# Altium footprint library Conn_Molex_22-23-2041_eec_0.PcbLib: 1 footprints
Each footprint in its own frame and in the unit in brackets; x right, y up, seen from the top. Pads: shape width x height; smd on the part's side, far side on the other; paste and mask are expansions set on the pad; w line width, h text height; cw(c..) or ccw(c..) is an arc to the next point about the centre after c.
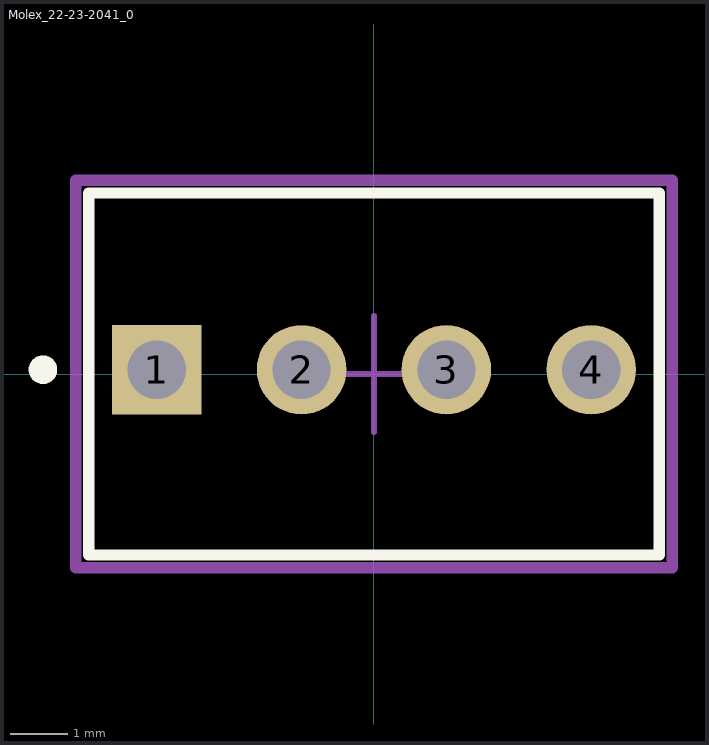
[diagram p0: the footprint, top view; thin cyan lines are the x and y axes]

## Molex_22-23-2041_0 [mm]
pads (4):
  rect 1.57x1.57 hole 1.02 paste-1000 mask+0: 1(-3.81,0.075)
  round 1.57 hole 1.02 paste-1000 mask+0: 2(-1.27,0.075) 3(1.27,0.075) 4(3.81,0.075)
Top Overlay:
  circle w0.25: c-5.805,0.075 r0.125
  lines w0.2: -5.005,-3.175 -5.005,3.175 5.005,3.175 5.005,-3.175 -5.005,-3.175
Mechanical 10:
  lines w0.2: -5.23,-3.4 -5.23,3.4 5.23,3.4 5.23,-3.4 -5.23,-3.4
  text ".Designator" at 0,0 h1
Mechanical 12:
  lines w0.15: -5.005,-3.175 -5.005,3.175 5.005,3.175 5.005,-3.175 -5.005,-3.175
Mechanical 15:
  lines w0.1: -1.02,0 1.02,0 ; -0.5,0 0.5,0 ; 0,-1.02 0,1.02 ; 0,-0.5 0,0.5
  lines w0.2: -5.23,-3.4 -5.23,3.4 5.23,3.4 5.23,-3.4 -5.23,-3.4
3D body "3dmodel.step": height 0.25, standoff 0, extent -5.23,-3.4 5.23,3.4